# EAGLE library part MEGAARDUINO_REDUCED (library ashield)
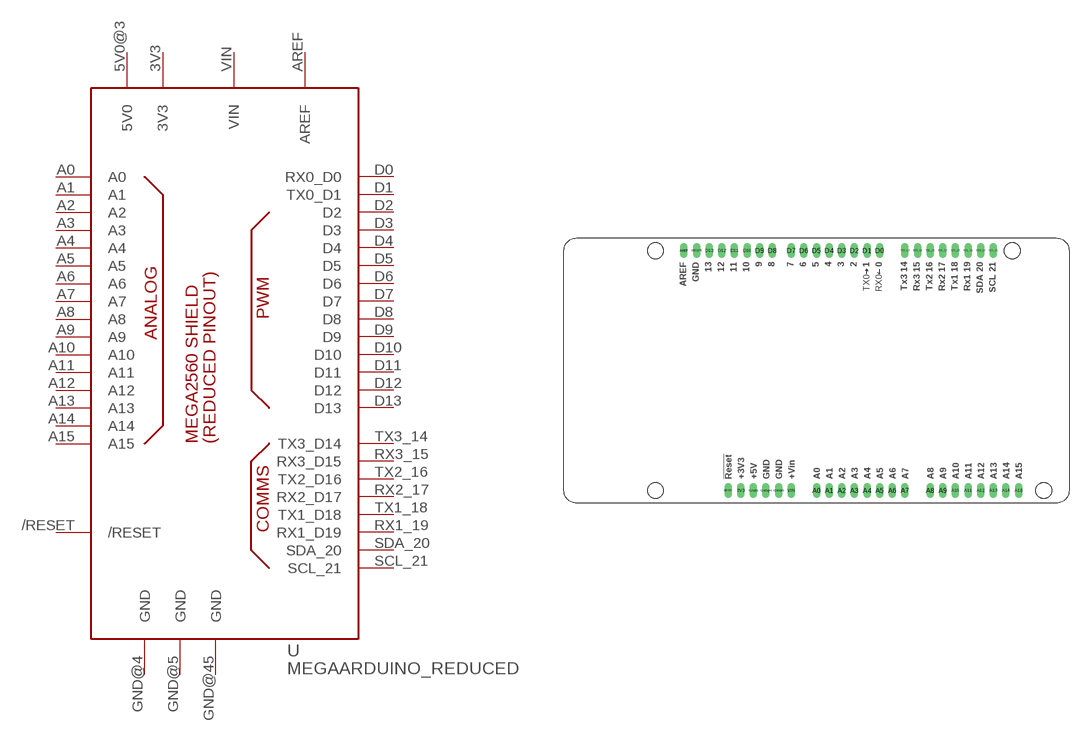
[diagram p3: symbol with the pads of MEGA_ARDUINO_REDUCED; footprint MEGA_ARDUINO_REDUCED]

Designator prefix -

## MEGAARDUINO_REDUCED  [MEGA_ARDUINO_REDUCED]
3V3  3V3  pwr
5V0@3  5V0  pwr
/RESET  /RESET  in
A0  A0
A1  A1
A2  A2
A3  A3
A4  A4
A5  A5
A6  A6
A7  A7
A8  A8
A9  A9
A10  A10
A11  A11
A12  A12
A13  A13
A14  A14
A15  A15
AREF  AREF  pwr
D0  RX0_D0
D1  TX0_D1
D2  D2
D3  D3
D4  D4
D5  D5
D6  D6
D7  D7
D8  D8
D9  D9
D10  D10
D11  D11
D12  D12
D13  D13
GND@4  GND  pwr
GND@5  GND  pwr
GND@45  GND  pwr
RX1_19  RX1_D19
RX2_17  RX2_D17
RX3_15  RX3_D15
SCL_21  SCL_21
SDA_20  SDA_20
TX1_18  TX1_D18
TX2_16  TX2_D16
TX3_14  TX3_D14
VIN  VIN  pwr

## Footprint MEGA_ARDUINO_REDUCED (pad centres in mm)
drill 1.016 long: 3V3 35.56,2.54; 5V0@3 38.1,2.54; /RESET 33.02,2.54; A0 50.8,2.54; A1 53.34,2.54; A2 55.88,2.54; A3 58.42,2.54; A4 60.96,2.54; A5 63.5,2.54; A6 66.04,2.54; A7 68.58,2.54; A8 73.66,2.54; A9 76.2,2.54; A10 78.74,2.54; A11 81.28,2.54; A12 83.82,2.54; A13 86.36,2.54; A14 88.9,2.54; A15 91.44,2.54; AREF 24.13,50.8; D0 63.5,50.8; D1 60.96,50.8; D2 58.42,50.8; D3 55.88,50.8; D4 53.34,50.8; D5 50.8,50.8; D6 48.26,50.8; D7 45.72,50.8; D8 41.91,50.8; D9 39.37,50.8; D10 36.83,50.8; D11 34.29,50.8; D12 31.75,50.8; D13 29.21,50.8; GND@4 40.64,2.54; GND@5 43.18,2.54; GND@45 26.67,50.8; RX1_19 81.28,50.8; RX2_17 76.2,50.8; RX3_15 71.12,50.8; SCL_21 86.36,50.8; SDA_20 83.82,50.8; TX1_18 78.74,50.8; TX2_16 73.66,50.8; TX3_14 68.58,50.8; VIN 45.72,2.54
hole 3.2 at 18.415,50.8
hole 3.2 at 18.415,2.54
hole 3.2 at 90.17,50.8
hole 3.2 at 96.52,2.54